# Altium schematic symbol library CONN-10P-2M.SchLib: 1 symbol
Pins are listed as number, name and electrical type; pins without a type are passive.

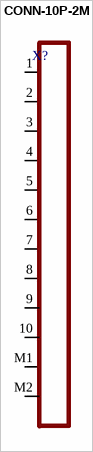
[diagram p0: symbol CONN-10P-2M]

## CONN-10P-2M
designator X?
pins: 1, 2, 3, 4, 5, 6, 7, 8, 9, 10, M1, M2